# EAGLE library part CORTEX_DEBUG_ETM (library greg-Connector)
Cortex Debug with ETM Trace Cortex Debug Connectors <http://infocenter.arm.com/help/topic/com.arm.doc.faqs/attached/13634/cortex_debug_connectors.pdf>
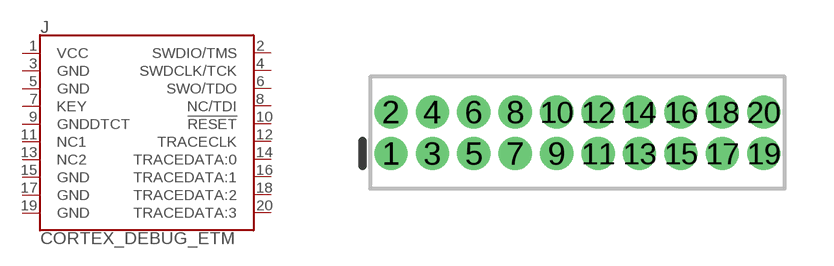
[diagram p4: symbol with the pads of 2X10-PTH-1.27MM; footprint 2X10-PTH-1.27MM]

Designator prefix J

## CORTEX_DEBUG_ETM  [2X10-PTH-1.27MM]
1  VCC
2  SWDIO/TMS
3  GND
4  SWDCLK/TCK
5  GND
6  SWO/TDO
7  KEY
8  NC/TDI
9  GNDDTCT
10  !RESET!
11  NC1
12  TRACECLK
13  NC2
14  TRACEDATA:0
15  GND
16  TRACEDATA:1
17  GND
18  TRACEDATA:2
19  GND
20  TRACEDATA:3

## Footprint 2X10-PTH-1.27MM (pad centres in mm)
drill 0.508 pad 1: 1 -5.715,-0.635; 2 -5.715,0.635; 3 -4.445,-0.635; 4 -4.445,0.635; 5 -3.175,-0.635; 6 -3.175,0.635; 7 -1.905,-0.635; 8 -1.905,0.635; 9 -0.635,-0.635; 10 -0.635,0.635; 11 0.635,-0.635; 12 0.635,0.635; 13 1.905,-0.635; 14 1.905,0.635; 15 3.175,-0.635; 16 3.175,0.635; 17 4.445,-0.635; 18 4.445,0.635; 19 5.715,-0.635; 20 5.715,0.635